# Altium schematic symbol library Isolated CANBUS.SchLib: 1 symbol
Pins are listed as number, name and electrical type; pins without a type are passive.

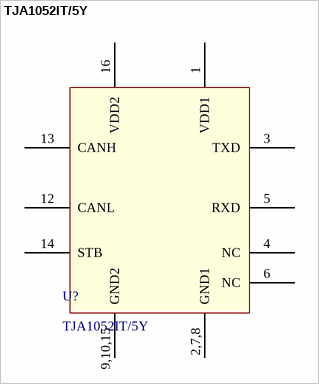
[diagram p0: symbol TJA1052IT/5Y]

## TJA1052IT/5Y
designator U?
footprint SOIC127P1032X265-16N
pins: 1 VDD1, 2,7,8 GND1, 3 TXD, 4 NC, 5 RXD, 6 NC, 9,10,15 GND2, 12 CANL, 13 CANH, 14 STB, 16 VDD2